# EAGLE library part IC_GENERIC_24 (library SnapEDA)
RE the MPU-6050 - the package has an Exposed Pad, but the datasheet specifies not to solder it, and not to route traces under it: 11.4.2 Exposed Die Pad Precautions The MPU-60X0 has very low active and standby current consumption. The exposed die pad is not required for heat sinking, and should not be soldered to the PCB . Failure to adhere to this rule can induce performance changes due to package thermo - mechanical stress. There is no electrical connection between the pad and the CMOS. 11.4.3 Trace Routing Routing traces or vias under the gyro package such that they run under the exposed die pad is prohibited. Routed active signals may harmonical ly couple with the gyro MEMS devices, compromising gyro response.
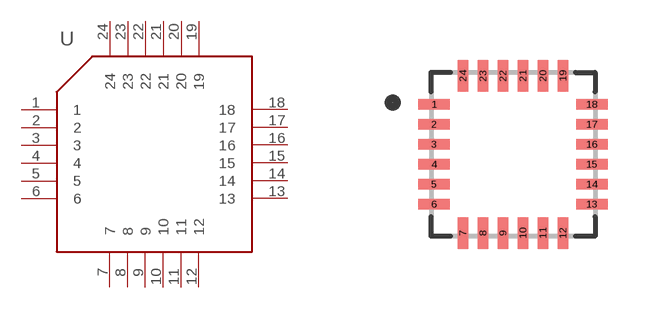
[diagram p12: symbol with the pads of QFN50P400X400X95-24N; footprint QFN50P400X400X95-24N]

Designator prefix U

## IC_GENERIC_24-QFN24-NO-EP  [QFN50P400X400X95-24N]
1  1
2  2
3  3
4  4
5  5
6  6
7  7
8  8
9  9
10  10
11  11
12  12
13  13
14  14
15  15
16  16
17  17
18  18
19  19
20  20
21  21
22  22
23  23
24  24

## Footprint QFN50P400X400X95-24N (pad centres in mm)
smd 0.79 x 0.26: 1 -1.97,1.25; 2 -1.97,0.75; 3 -1.97,0.25; 4 -1.97,-0.25; 5 -1.97,-0.75; 6 -1.97,-1.25; 13 1.97,-1.25; 14 1.97,-0.75; 15 1.97,-0.25; 16 1.97,0.25; 17 1.97,0.75; 18 1.97,1.25
smd 0.26 x 0.79: 7 -1.25,-1.97; 8 -0.75,-1.97; 9 -0.25,-1.97; 10 0.25,-1.97; 11 0.75,-1.97; 12 1.25,-1.97; 19 1.25,1.97; 20 0.75,1.97; 21 0.25,1.97; 22 -0.25,1.97; 23 -0.75,1.97; 24 -1.25,1.97